# EAGLE library part ATMEGA328PB (library Semiconductors > Embedded Processors & Controllers > Microcontrollers - MCU)
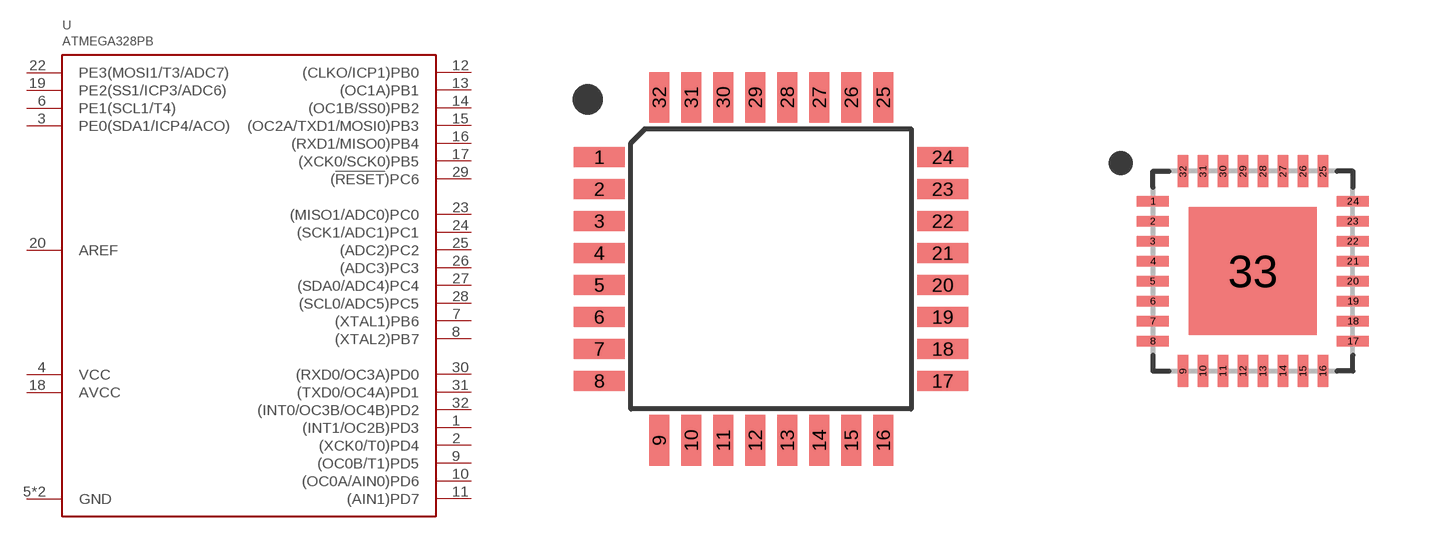
[diagram p23: symbol with the pads of TQFP32; footprints TQFP32, VQFN32]

Designator prefix U

## ATMEGA328PB-AU  [TQFP32]
1  (INT1/OC2B)PD3
2  (XCK0/T0)PD4
3  PE0(SDA1/ICP4/ACO)
4  VCC  pwr
5  GND  pwr
6  PE1(SCL1/T4)
7  (XTAL1)PB6
8  (XTAL2)PB7
9  (OC0B/T1)PD5
10  (OC0A/AIN0)PD6
11  (AIN1)PD7
12  (CLKO/ICP1)PB0
13  (OC1A)PB1
14  (OC1B/SS0)PB2
15  (OC2A/TXD1/MOSI0)PB3
16  (RXD1/MISO0)PB4
17  (XCK0/SCK0)PB5
18  AVCC  pwr
19  PE2(SS1/ICP3/ADC6)
20  AREF  pas
21  GND  pwr
22  PE3(MOSI1/T3/ADC7)
23  (MISO1/ADC0)PC0
24  (SCK1/ADC1)PC1
25  (ADC2)PC2
26  (ADC3)PC3
27  (SDA0/ADC4)PC4
28  (SCL0/ADC5)PC5
29  (!RESET!)PC6
30  (RXD0/OC3A)PD0
31  (TXD0/OC4A)PD1
32  (INT0/OC3B/OC4B)PD2

## ATMEGA328PB-MU  [VQFN32]
Pads as for TQFP32

## Footprint TQFP32 (pad centres in mm)
smd 1.27 x 0.5: 1 -4.293,2.8; 2 -4.293,2; 3 -4.293,1.2; 4 -4.293,0.4; 5 -4.293,-0.4; 6 -4.293,-1.2; 7 -4.293,-2; 8 -4.293,-2.8; 17 4.293,-2.8; 18 4.293,-2; 19 4.293,-1.2; 20 4.293,-0.4; 21 4.293,0.4; 22 4.293,1.2; 23 4.293,2; 24 4.293,2.8
smd 0.5 x 1.27: 9 -2.8,-4.293; 10 -2,-4.293; 11 -1.2,-4.293; 12 -0.4,-4.293; 13 0.4,-4.293; 14 1.2,-4.293; 15 2,-4.293; 16 2.8,-4.293; 25 2.8,4.293; 26 2,4.293; 27 1.2,4.293; 28 0.4,4.293; 29 -0.4,4.293; 30 -1.2,4.293; 31 -2,4.293; 32 -2.8,4.293

## Footprint VQFN32 (pad centres in mm)
smd 0.8 x 0.26: 1 -2.5,1.75; 2 -2.5,1.25; 3 -2.5,0.75; 4 -2.5,0.25; 5 -2.5,-0.25; 6 -2.5,-0.75; 7 -2.5,-1.25; 8 -2.5,-1.75; 17 2.5,-1.75; 18 2.5,-1.25; 19 2.5,-0.75; 20 2.5,-0.25; 21 2.5,0.25; 22 2.5,0.75; 23 2.5,1.25; 24 2.5,1.75
smd 0.26 x 0.8: 9 -1.75,-2.5; 10 -1.25,-2.5; 11 -0.75,-2.5; 12 -0.25,-2.5; 13 0.25,-2.5; 14 0.75,-2.5; 15 1.25,-2.5; 16 1.75,-2.5; 25 1.75,2.5; 26 1.25,2.5; 27 0.75,2.5; 28 0.25,2.5; 29 -0.25,2.5; 30 -0.75,2.5; 31 -1.25,2.5; 32 -1.75,2.5
smd 1.2 x 1.2: 33 0,0